# Altium footprint library Frost5000Beta_LIB_Conectores_PCB.PcbLib: 6 footprints
Each footprint in its own frame and in the unit in brackets; x right, y up, seen from the top. Pads: shape width x height; smd on the part's side, far side on the other; paste and mask are expansions set on the pad; w line width, h text height; cw(c..) or ccw(c..) is an arc to the next point about the centre after c.
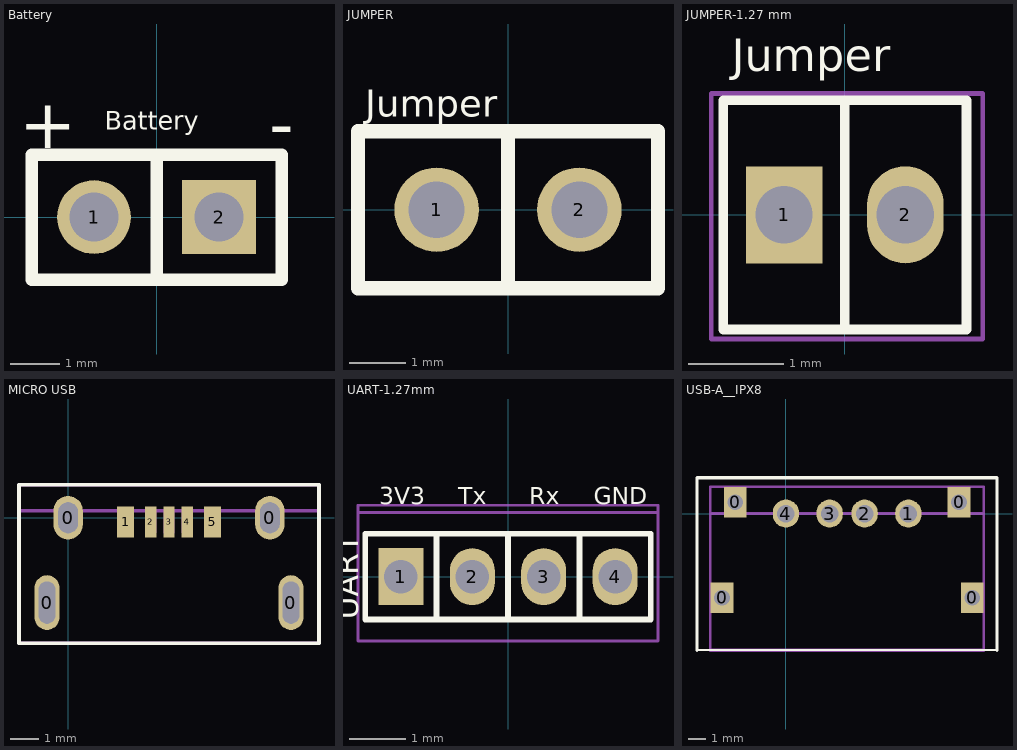
[diagram p0: the footprints below, top view; thin cyan lines are the x and y axes]

## Battery [mm] "Footprint Battery"
pads (2):
  round 1.5 hole 1: 1(-1.27,0)
  rect 1.5x1.5 hole 1: 2(1.27,0)
Top Overlay:
  lines w0.254: 0,-1.27 0,1.27 ; -2.54,-1.27 2.54,-1.27 2.54,1.27 -2.54,1.27 -2.54,-1.27
  text "Battery" at -1.05,1.775 h0.38
  text "+" at -2.794,1.397 h1.02
  text "-" at 2.286,1.397 h1.02
Mechanical 13:
  circle w0.25: c-1.275,0 r0.17
  circle w0.25: c1.3,0 r0.17
  lines w0.07: -2.54,-1.27 -2.54,1.27 2.54,1.27 2.54,-1.27 -2.54,-1.27
  text "'.Designator'" at -2.175,0.625 h0.35
Mechanical 15:
  lines w0.152: -2.54,-1.27 -2.54,1.27 2.54,1.27 2.54,-1.27 -2.54,-1.27

## JUMPER [mm] "Footprint Jumper"
pads (2):
  round 1.5 hole 1: 1(-1.27,0) 2(1.27,0)
Top Overlay:
  lines w0.254: 0,-1.27 0,1.27 ; -2.667,-1.397 2.667,-1.397 2.667,1.397 -2.667,1.397 -2.667,-1.397
  text "Jumper" at -2.54,1.651 h0.48
Mechanical 13:
  lines w0.152: -2.667,-1.397 2.667,-1.397 2.667,1.397 -2.667,1.397 -2.667,-1.397
Mechanical 15:
  lines w0.152: -2.667,-1.397 2.667,-1.397 2.667,1.397 -2.667,1.397 -2.667,-1.397
3D body "Header_254mm_Pitch2-1.step": height 5.95, standoff -2.93, extent -2.54,-1.27 2.54,1.27

## JUMPER-1.27 mm [mm] "Footprint Jumper"
pads (2):
  rect 0.8x1.016 hole 0.6: 1(-0.635,0)
  oval 0.8x1.016 hole 0.6: 2(0.635,0)
Top Overlay:
  lines w0.08: 0,1.2 0.443,1.2
  lines w0.102: -0.013,-1.2 0.707,-1.2 ; 0.43,-1.2 1.275,-1.2 1.275,1.2 0.443,1.2 ; 0.72,1.2 0,1.2 ; 0,1.2 -1.27,1.2 -1.27,-1.2 0,-1.2 0,1.2
  text "Jumper" at -1.18,1.5 h0.34
Mechanical 13:
  circle w0.25: c-0.65,0 r0.17
  circle w0.25: c0.65,0 r0.17
  lines w0.051: -1.397,-1.3 -1.397,1.27 1.445,1.27 1.445,-1.3 -1.397,-1.3
  text "'.Designator'" at -1.3,0.85 h0.28
Mechanical 15:
  lines w0.051: -1.397,-1.3 -1.397,1.27 1.445,1.27 1.445,-1.3 -1.397,-1.3
3D body "Header_127mm_Pitch2-1_usar2.step": height 4.85, standoff -2.4, extent -1.27,-1.2 1.27,1.2

## MICRO USB [mm] "Footprint MicroUSB"
pads (9):
  oval 0.9x1.95 hole 0.6 slot 1.5 at 90 deg: 0(-0.75,-3.025) 0(7.95,-3.025)
  oval 1.05x1.55 hole 0.7 slot 1.1 at 90 deg: 0(0,0) 0(7.2,0)
  rect 0.6x1.1 smd mask+0.08: 1(2.05,-0.15) 5(5.15,-0.15)
  rect 0.4x1.1 smd mask+0.08: 2(2.95,-0.15) 3(3.6,-0.15) 4(4.25,-0.15)
Top Overlay:
  lines w0.13: -1.75,-4.475 -1.75,1.175 8.95,1.175 8.95,-4.475 -1.75,-4.475
Mechanical 13:
  lines w0.1: 1.825,0.25 1.825,-0.525 2.275,-0.525 2.275,0.25 ; 2.8,0.25 2.8,-0.525 3.1,-0.525 3.1,0.25 ; 3.45,0.25 3.45,-0.525 3.75,-0.525 3.75,0.25 ; 4.1,0.25 4.1,-0.525 4.4,-0.525 4.4,0.25 ; 4.925,0.238 4.925,-0.537 5.375,-0.537 5.375,0.238
  lines w0.13: -1.75,-4.475 -1.75,0.25 8.95,0.25 8.95,-4.475 -1.75,-4.475
  text "'.Designator'" at -1.05,-1.6 h0.5
Mechanical 15:
  lines w0.13: -1.75,-4.475 -1.75,1.175 8.95,1.175 8.95,-4.475 -1.75,-4.475
3D body "MicroUSBip68.STEP": height 4.32, standoff -0.74, extent -1.35,-7.015 8.55,0.275

## UART-1.27mm [mm] "Socket UART"
pads (4):
  rect 0.8x1.016 hole 0.6: 1(-1.905,0)
  oval 0.8x1.016 hole 0.6: 2(-0.635,0) 3(0.635,0) 4(1.905,0)
Top Overlay:
  lines w0.102: -1.27,-0.762 -1.27,0.762 -2.54,0.762 ; 0,-0.762 0,0.762 ; 1.27,-0.762 1.27,0.762 ; -2.54,0.762 -2.54,-0.762 2.54,-0.762 2.54,0.762 -2.54,0.762
  text "UART" at -2.667,-0.762 h0.41
  text "3V3" at -2.286,1.289 h0.3
  text "Tx" at -0.889,1.289 h0.3
  text "Rx" at 0.381,1.289 h0.3
  text "GND" at 1.524,1.289 h0.3
Mechanical 13:
  circle w0.25: c-1.915,0 r0.17
  circle w0.25: c0.7,0 r0.17
  circle w0.25: c1.9,0 r0.17
  circle w0.25: c-0.6,0 r0.17
  lines w0.051: -2.667,-1.143 -2.667,1.27 2.667,1.27 2.667,-1.143 -2.667,-1.143
  text "'.Designator'" at -2.5,0.6 h0.4
Mechanical 15:
  lines w0.051: -2.667,-1.143 -2.667,1.143 2.667,1.143 2.667,-1.143 -2.667,-1.143
3D body "Header_127mm_Pitch2-1_usar2.step": height 4.85, standoff -2.4, extent 0,-1.2 2.54,1.2
3D body "Header_127mm_Pitch2-1_usar2.step": height 4.85, standoff -2.4, extent -2.54,-1.2 0,1.2

## USB-A__IPX8 [mm] "Footprint del USB tipo A"
pads (8):
  rect 1.3x1.75 hole 0.9 square: 0(-3.65,-4.82) 0(-2.9,0.64) 0(9.9,0.64) 0(10.65,-4.82)
  oval 1.5x1.6 hole 1: 1(7,0) 2(4.5,0) 3(2.5,0) 4(0,0)
Top Overlay:
  lines w0.127: -5.08,-7.8 12.065,-7.8
  lines w0.2: -5.08,-7.8 -5.08,2.032 12.065,2.032 12.065,-7.8
Mechanical 13:
  circle w0.25: c4.5,0 r0.17
  circle w0.25: c0,0 r0.17
  circle w0.25: c7,0 r0.17
  circle w0.25: c2.5,0 r0.17
  lines w0.152: -4.318,-7.8 -4.318,0 11.303,0 11.303,-6.35 11.303,-7.8 -4.318,-7.8
  text "'.Designator'" at -3.7,-1.7 h0.5
Mechanical 15:
  lines w0.152: -4.318,-7.8 -4.318,1.524 11.303,1.524 11.303,-7.8
  lines w0.2: -4.318,-7.8 11.303,-7.8
3D body "USB_A_ip68.STEP": height 7.46, standoff -0.99, extent -4.15,-10.95 11.15,1.2